# EAGLE library part PCIEX1 (library Public)
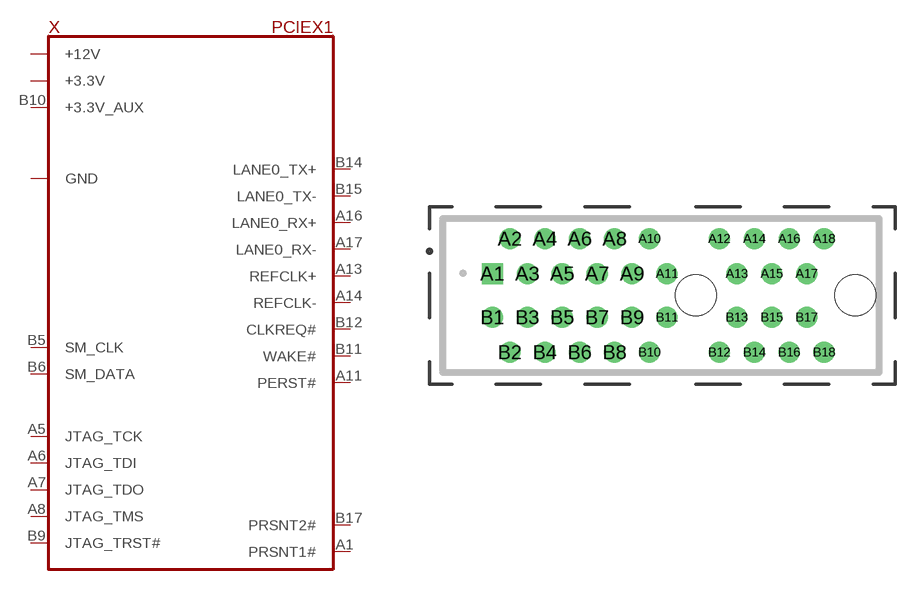
[diagram p111: symbol with the pads of PCIE_AMPHENOL_10018784; footprint PCIE_AMPHENOL_10018784]

Designator prefix X

## PCIEX1(10018784)  [PCIE_AMPHENOL_10018784]
A1  PRSNT1#
A2  +12V
A3  +12V
A4  GND
A5  JTAG_TCK
A6  JTAG_TDI
A7  JTAG_TDO
A8  JTAG_TMS
A9  +3.3V
A10  +3.3V
A11  PERST#
A12  GND
A13  REFCLK+
A14  REFCLK-
A15  GND
A16  LANE0_RX+
A17  LANE0_RX-
A18  GND
B1  +12V
B2  +12V
B3  +12V
B4  GND
B5  SM_CLK
B6  SM_DATA
B7  GND
B8  +3.3V
B9  JTAG_TRST#
B10  +3.3V_AUX
B11  WAKE#
B12  CLKREQ#
B13  GND
B14  LANE0_TX+
B15  LANE0_TX-
B16  GND
B17  PRSNT2#
B18  GND

## Footprint PCIE_AMPHENOL_10018784 (pad centres in mm)
drill 0.7 square: A1 -11.65,1.25
drill 0.7: A2 -10.65,3.25; A3 -9.65,1.25; A4 -8.65,3.25; A5 -7.65,1.25; A6 -6.65,3.25; A7 -5.65,1.25; A8 -4.65,3.25; A9 -3.65,1.25; A10 -2.65,3.25; A11 -1.65,1.25; A12 1.35,3.25; A13 2.35,1.25; A14 3.35,3.25; A15 4.35,1.25; A16 5.35,3.25; A17 6.35,1.25; A18 7.35,3.25; B1 -11.65,-1.25; B2 -10.65,-3.25; B3 -9.65,-1.25; B4 -8.65,-3.25; B5 -7.65,-1.25; B6 -6.65,-3.25; B7 -5.65,-1.25; B8 -4.65,-3.25; B9 -3.65,-1.25; B10 -2.65,-3.25; B11 -1.65,-1.25; B12 1.35,-3.25; B13 2.35,-1.25; B14 3.35,-3.25; B15 4.35,-1.25; B16 5.35,-3.25; B17 6.35,-1.25; B18 7.35,-3.25
hole 2.35 at 0,0
hole 2.35 at 9.15,0